# Altium schematic symbol library PassiveComponents.SchLib: 6 symbols
Pins are listed as number, name and electrical type; pins without a type are passive.

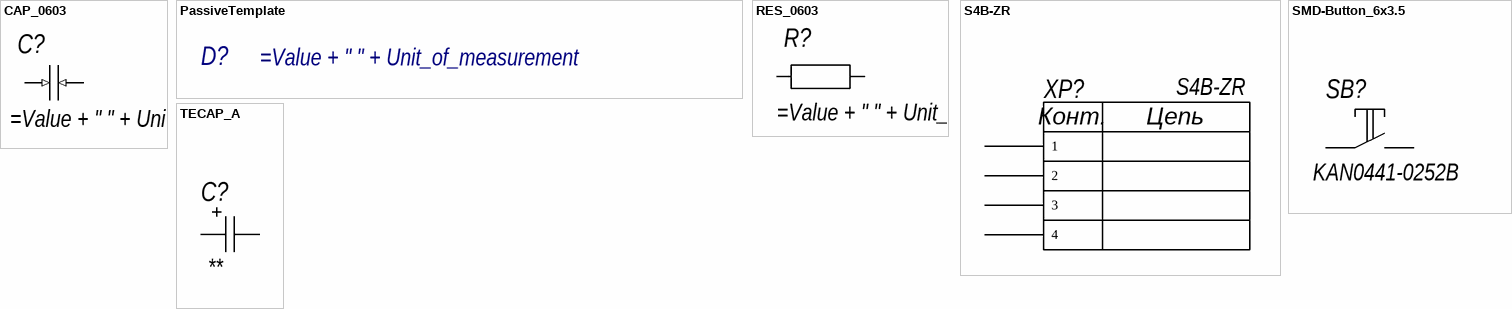
[diagram p0: symbols CAP_0603 to TECAP_A]

## CAP_0603
designator C?
Конденсатор керамический, типоразмера 0603; Unit_of_measurement: Ф; Value: *; ComponentLink1Description: New link; ComponentLink1URL: *
footprint CAP_0603 (Chip Capacitor, 2-Leads, Body 1,60x0,80mm, IPC Medium Density)
pins: 1 (in) "Информационный вход Х6", 2 (in) "Информационный вход Х6"

## PassiveTemplate
designator D?
!!! Обязательно Впишите описание символа; Value: *; ComponentLink1Description: New link; ComponentLink1URL: *; Unit_of_measurement: *

## RES_0603
designator R?
Резистор, типоразмера 0603; Unit_of_measurement: Ом; Value: *; ComponentLink1Description: New link; ComponentLink1URL: *
footprint RES_0603 (Chip Resistor, 2-Leads, Body 1,60x0,80mm, IPC Medium Density)
pins: 1, 2

## S4B-ZR
designator XP?
JST ZH 4pin 1.5 mm pitch; horizontal; through hole OR full smd; S4B-ZR
footprint S4B-ZR
footprint S4B-ZR-SM4A-TF
pins: 1 "Информационный вход Х6", 2 "Информационный вход Х6", 3 "Информационный вход Х6", 4 "Информационный вход Х6"
text: Конт.; Цепь

## SMD-Button_6x3.5
designator SB?, comment KAN0441-0252B
Описание свойств компонента
footprint SMD-BUTTON_6x3.5
pins: 1 S1, 2 S2

## TECAP_A
designator C?, comment **
Описание свойств компонента; Value: *; Unit_of_measurement: *
footprint TECAP_A (Molded Capacitor, 2-Leads, Body 3,20x1,60mm, IPC Medium Density)
pins: 1 "Информационный вход Х6", 2 "Информационный вход Х6"